# Altium schematic symbol library CC1101 Module.SchLib: 2 symbols
Pins are listed as number, name and electrical type; pins without a type are passive.

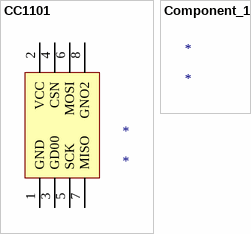
[diagram p0: symbols CC1101 to Component_1]

## CC1101
designator *
footprint CC1101 - duplicate1
pins: 1 GND, 2 VCC, 3 GD00, 4 CSN, 5 SCK, 6 MOSI, 7 MISO, 8 GNO2

## Component_1
designator *